# Altium schematic symbol library CurrentSense.SchLib: 4 symbols
Pins are listed as number, name and electrical type; pins without a type are passive.

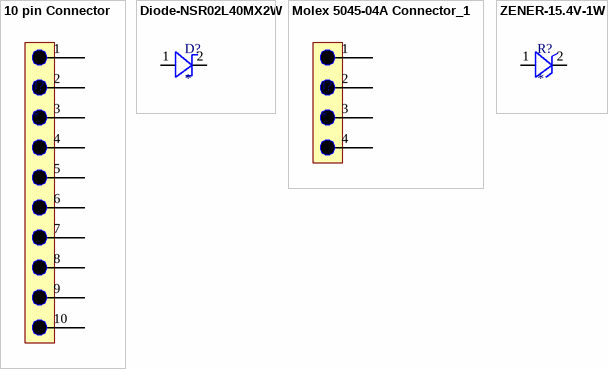
[diagram p0: symbols 10 pin Connector to ZENER-15.4V-1W]

## 10 pin Connector
designator J?
footprint 10 Pin connector 2.5mm spacing (Footprint not found)
pins: 1, 2, 3, 4 3, 5, 6, 7, 8, 9, 10

## Diode-NSR02L40MX2W
designator D?
NSR02L40MX2W
footprint Diode NSVR02L40MX2WT5G
pins: 1, 2 16

## Molex 5045-04A Connector_1
designator J?
footprint CurrentSenseConnector Footprint
pins: 1, 2, 3, 4 3

## ZENER-15.4V-1W
designator R?
PTZTE2515B; Mfr_Name: ROHM Semiconductor; RefDes: RefDes; Type: Type
footprint ZENER-15.4V-1W-DIO_PTZT_ROM-M (PTZTE2515B)
pins: 1, 2